# Altium schematic symbol library Dwl-Altium-Schematic-Symbol-Library.schlib: 4 symbols
Pins are listed as number, name and electrical type; pins without a type are passive.

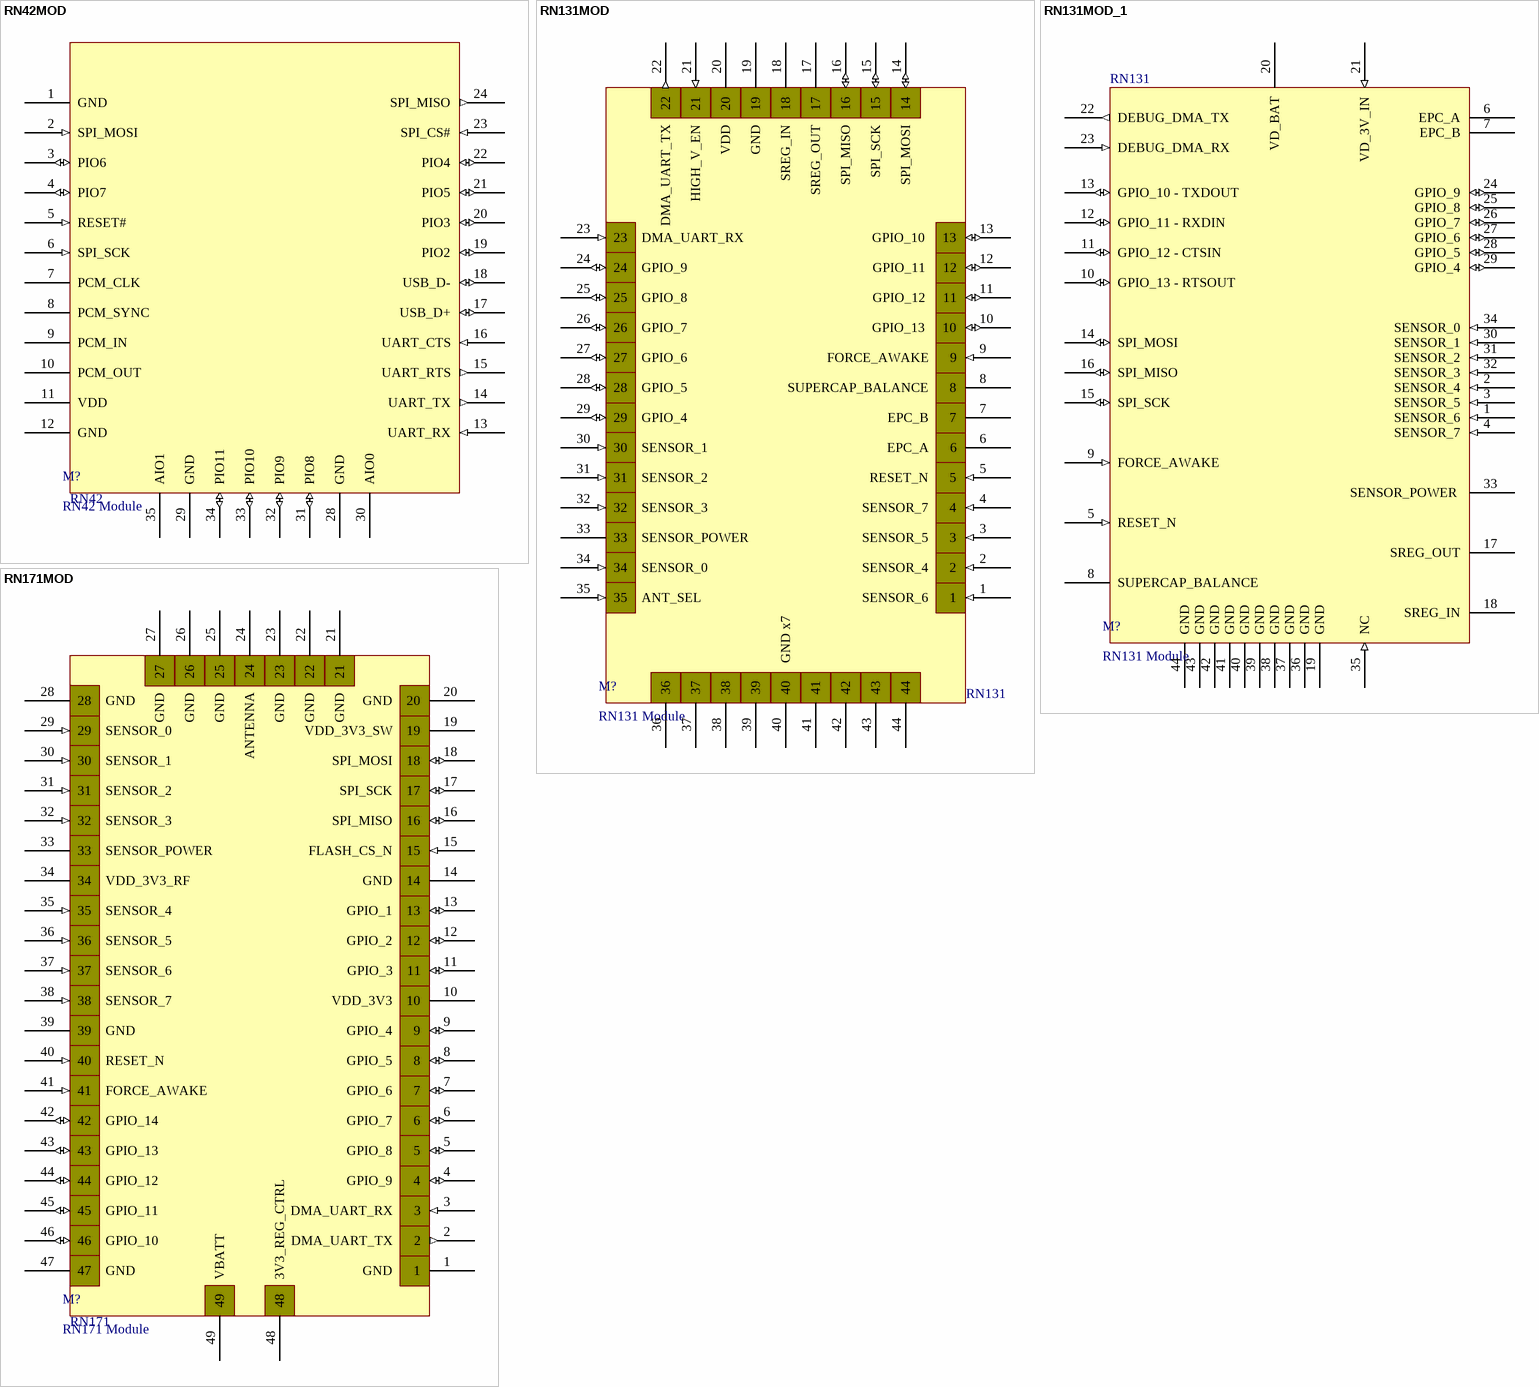
[diagram p0: symbols RN42MOD to RN171MOD]

## RN42MOD
designator M?, comment RN42 Module  value RN42  (no BOM)
footprint RN42-LAND (RN42 Footprint)
pins: 1 GND (power), 2 SPI_MOSI (in), 3 PIO6 (io), 4 PIO7 (io), 5 RESET# (in), 6 SPI_SCK (in), 7 PCM_CLK, 8 PCM_SYNC, 9 PCM_IN, 10 PCM_OUT, 11 VDD (power), 12 GND (power), 13 UART_RX (in), 14 UART_TX (out), 15 UART_RTS (out), 16 UART_CTS (in), 17 USB_D+ (io), 18 USB_D- (io), 19 PIO2 (io), 20 PIO3 (io), 21 PIO5 (io), 22 PIO4 (io), 23 SPI_CS# (in), 24 SPI_MISO (out), 28 GND (power), 29 GND (power), 30 AIO0, 31 PIO8 (io), 32 PIO9 (io), 33 PIO10 (io), 34 PIO11 (io), 35 AIO1

## RN131MOD
designator M?, comment RN131 Module  value RN131  (no BOM)
footprint RN131-LAND (RN131 Landing Pads)
pins: 1 SENSOR_6      1 (in), 2 SENSOR_4      2 (in), 3 SENSOR_5      3 (in), 4 SENSOR_7      4 (in), 5 RESET_N      5 (in), 6 EPC_A      6, 7 EPC_B      7, 8 SUPERCAP_BALANCE      8 (power), 9 FORCE_AWAKE      9 (in), 10 GPIO_13     10 (io), 11 GPIO_12     11 (io), 12 GPIO_11     12 (io), 13 GPIO_10     13 (io), 14 SPI_MOSI    14 (io), 15 SPI_SCK    15 (io), 16 SPI_MISO    16 (io), 17 SREG_OUT    17 (power), 18 SREG_IN    18 (power), 19 GND    19 (power), 20 VDD    20 (power), 21 HIGH_V_EN    21 (in), 22 DMA_UART_TX    22 (out), 23 23    DMA_UART_RX (in), 24 24    GPIO_9 (io), 25 25    GPIO_8 (io), 26 26    GPIO_7 (io), 27 27    GPIO_6 (io), 28 28    GPIO_5 (io), 29 29    GPIO_4 (io), 30 30    SENSOR_1 (in), 31 31    SENSOR_2 (in), 32 32    SENSOR_3 (in), 33 33    SENSOR_POWER  (power), 34 34    SENSOR_0 (in), 35 35    ANT_SEL   (in), 36 36  (power), 37 (power), 38 (power), 39 (power), 40 40     GND x7 (power), 41 (power), 42 (power), 43 (power), 44 (power)

## RN131MOD_1
designator M?, comment RN131 Module  value RN131  (no BOM)
footprint RN131-LAND (RN131 Landing Pads)
pins: 1 SENSOR_6 (in), 2 SENSOR_4 (in), 3 SENSOR_5 (in), 4 SENSOR_7 (in), 5 RESET_N (in), 6 EPC_A, 7 EPC_B, 8 SUPERCAP_BALANCE (power), 9 FORCE_AWAKE (in), 10 GPIO_13 - RTSOUT (io), 11 GPIO_12 - CTSIN (io), 12 GPIO_11 - RXDIN (io), 13 GPIO_10 - TXDOUT (io), 14 SPI_MOSI (io), 15 SPI_SCK (io), 16 SPI_MISO (io), 17 SREG_OUT (power), 18 SREG_IN (power), 19 GND (power), 20 VD_BAT (power), 21 VD_3V_IN (in), 22 DEBUG_DMA_TX (out), 23 DEBUG_DMA_RX (in), 24 GPIO_9 (io), 25 GPIO_8 (io), 26 GPIO_7 (io), 27 GPIO_6 (io), 28 GPIO_5 (io), 29 GPIO_4 (io), 30 SENSOR_1 (in), 31 SENSOR_2 (in), 32 SENSOR_3 (in), 33 SENSOR_POWER  (power), 34 SENSOR_0 (in), 35 NC (in), 36 GND (power), 37 GND (power), 38 GND (power), 39 GND (power), 40 GND (power), 41 GND (power), 42 GND (power), 43 GND (power), 44 GND (power)

## RN171MOD
designator M?, comment RN171 Module  value RN171  (no BOM)
footprint RN171-LAND (RN171 Landing Pads)
pins: 1 GND      1 (power) "GND", 2 DMA_UART_TX      2 (out) "DMA_UART_TX", 3 DMA_UART_RX      3 (in) "DMA_UART_RX", 4 GPIO_9      4 (io) "GPIO_9", 5 GPIO_8      5 (io) "GPIO_8", 6 GPIO_7      6 (io) "GPIO_7", 7 GPIO_6      7 (io) "GPIO_6", 8 GPIO_5      8 (io) "GPIO_5", 9 GPIO_4      9 (io) "GPIO_4", 10 VDD_3V3    10 (power) "VDD_3V3", 11 GPIO_3    11 (io) "GPIO_3", 12 GPIO_2    12 (io) "GPIO_2", 13 GPIO_1    13 (io) "GPIO_1", 14 GND    14 (power) "GND", 15 FLASH_CS_N    15 (in) "FLASH_CS_N", 16 SPI_MISO    16 (io) "SPI_MISO", 17 SPI_SCK    17 (io) "SPI_SCK", 18 SPI_MOSI    18 (io) "SPI_MOSI", 19 VDD_3V3_SW    19 (power) "VDD_3V3_SW", 20 GND    20 (power) "GND", 21 GND    21 (power) "GND", 22 GND    22 (power) "GND", 23 GND    23 (power) "GND", 24 ANTENNA    24 "ANTENNA", 25 GND    25 (power) "GND", 26 GND    26 (power) "GND", 27 GND    27 (power) "GND", 28 28    GND (power) "GND", 29 29    SENSOR_0 (in) "SENSOR_0", 30 30    SENSOR_1 (in) "SENSOR_1", 31 31    SENSOR_2 (in) "SENSOR_2", 32 32    SENSOR_3 (in) "SENSOR_3", 33 33    SENSOR_POWER (power) "SENSOR_POWER", 34 34    VDD_3V3_RF (power) "VDD_3V3_RF", 35 35    SENSOR_4 (in) "SENSOR_4", 36 36    SENSOR_5 (in) "SENSOR_5", 37 37    SENSOR_6 (in) "SENSOR_6", 38 38    SENSOR_7 (in) "SENSOR_7", 39 39    GND (power) "GND", 40 40    RESET_N (in) "RESET_L", 41 41    FORCE_AWAKE (in) "FORCE_AWAKE", 42 42    GPIO_14 (io) "GPIO_14", 43 43    GPIO_13 (io) "GPIO_13", 44 44    GPIO_12 (io) "GPIO_12", 45 45    GPIO_11 (io) "GPIO_11", 46 46    GPIO_10 (io) "GPIO_10", 47 47    GND (power) "GND", 48 48    3V3_REG_CTRL (power) "3V3_REG_CTRL", 49 49    VBATT (power) "VBATT"